# EAGLE library part JTAGHEADER (library DS1031-14 - IDC socket)
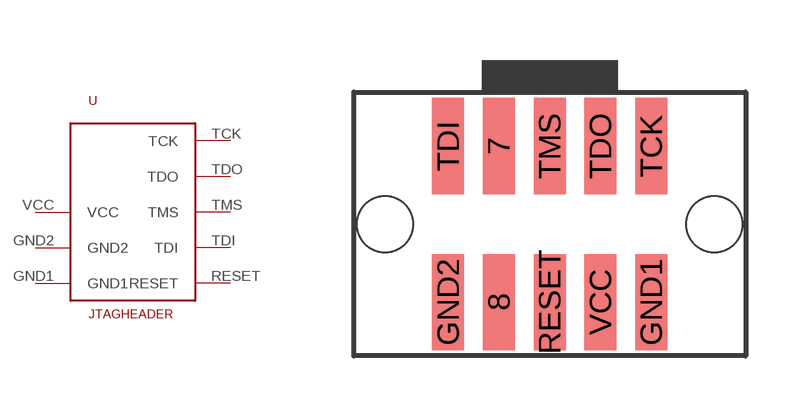
[diagram p0: symbol with the pads of SMD_1.27X30; footprint SMD_1.27X30]

Designator prefix -

## JTAGHEADER  [SMD_1.27X30]
GND1  GND1
GND2  GND2
RESET  RESET
TCK  TCK
TDI  TDI
TDO  TDO
TMS  TMS
VCC  VCC

## Footprint SMD_1.27X30 (pad centres in mm)
smd 0.8 x 2.4: 7 -1.27,1.95; 8 -1.27,-1.95; GND1 2.54,-1.95; GND2 -2.54,-1.95; RESET 0,-1.95; TCK 2.54,1.95; TDI -2.54,1.95; TDO 1.27,1.95; TMS 0,1.95; VCC 1.27,-1.95
hole 1.4 at -4.115,0
hole 1.4 at 4.115,0